# Altium schematic symbol library 电阻.SchLib: 121 symbols
Pins are listed as number, name and electrical type; pins without a type are passive.

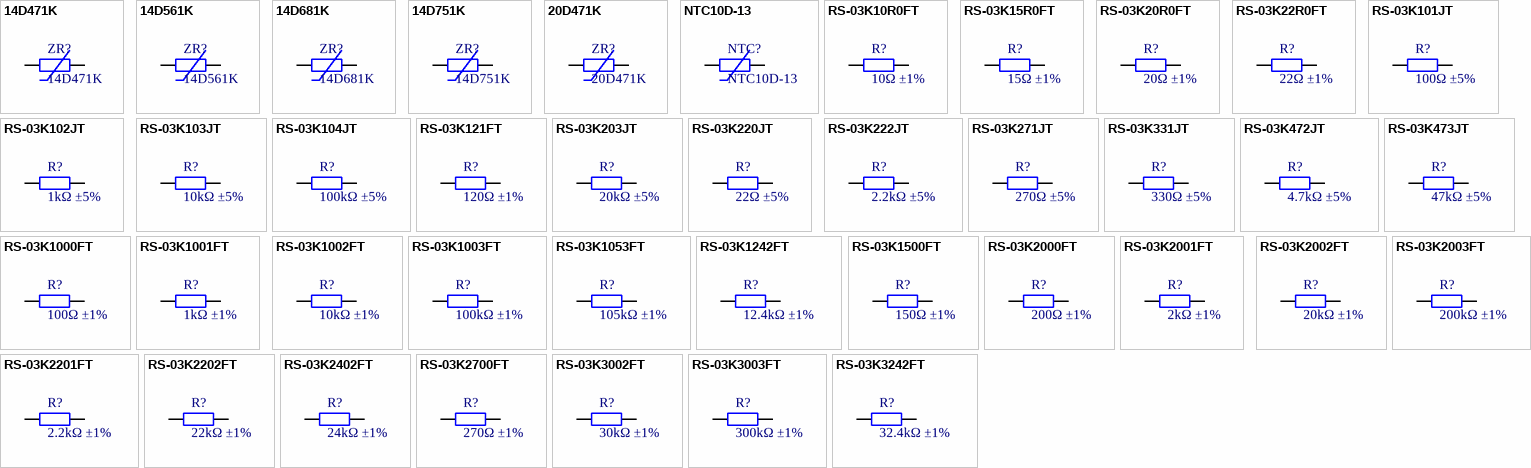
[diagram p0: symbols 14D471K to RS-03K3242FT]

## 14D471K
designator ZR?
压敏电阻 AC=300V DC=385V; 厂家: 硕凯; 金蝶料号: 010103060001; 工作温度: -55~155℃; 插件/贴片: 插件; 器件状态: 在用; 厂家型号: 14D471K; 值: 14D471K
footprint TVR-14D (淘宝ID:黄晶宝石   店铺网址:https://shop463601444.taobao.com)
pins: 1, 2

## 14D561K
designator ZR?
压敏电阻 AC=350V DC=460V; 厂家: 硕凯; 金蝶料号: 010103060008; 工作温度: -55~155℃; 插件/贴片: 插件; 器件状态: 在用; 厂家型号: 14D561K
footprint TVR-14D (淘宝ID:黄晶宝石   店铺网址:https://shop463601444.taobao.com)
pins: 1, 2

## 14D681K
designator ZR?
压敏电阻 AC=420V  DC=560V; 金蝶料号: 010103060009; 工作温度: -55~155℃; 插件/贴片: 插件; 器件状态: 在用; 厂家型号: 14D681K
footprint TVR-14D (淘宝ID:黄晶宝石   店铺网址:https://shop463601444.taobao.com)
pins: 1, 2

## 14D751K
designator ZR?
压敏电阻 AC=460V  DC=615V; 厂家型号: 14D681K; 金蝶料号: 010103060010; 工作温度: -55~155℃; 插件/贴片: 插件; 器件状态: 在用
footprint TVR-14D (淘宝ID:黄晶宝石   店铺网址:https://shop463601444.taobao.com)
pins: 1, 2

## 20D471K
designator ZR?
压敏电阻 AC=300V DC=385V; 金蝶料号: 010103060004; 工作温度: -55~155℃; 插件/贴片: 插件; 器件状态: 在用; 厂家型号: 20D471K; 值: 20D471K
footprint 20D471K
pins: 1, 2

## NTC10D-13
designator NTC?
压敏电阻 4A  MF72; 厂家: 硕凯; 金蝶料号: 010103050010; 工作温度: -40~+200℃; 插件/贴片: 插件; 值: SCN10D-13; 器件状态: 在用; 厂家型号: NTC10D-13
footprint 10D-13
pins: 1, 2

## RS-03K10R0FT
designator R?, comment 10Ω ±1%
贴片电阻 10Ω ±1% 100mW 0603; 厂家: 风华; 厂家型号: RS-03K10R0FT; 金蝶料号: 010103010134; 工作温度: -55~125℃; 插件/贴片: 贴片; 器件状态: 在用; 值: 10Ω
footprint 0603_R
pins: 1, 2

## RS-03K15R0FT
designator R?, comment 15Ω ±1%
贴片电容 15Ω ±1% 100mW 0603; 厂家: 风华; 厂家型号: RS-03K15R0FT; 金蝶料号: 010103010131; 工作温度: -55~125℃; 插件/贴片: 贴片; 器件状态: 启用; 值: 15Ω ±1% 100mW 0603
footprint 0603_R
pins: 1, 2

## RS-03K20R0FT
designator R?, comment 20Ω ±1%
贴片电阻 20Ω ±1% 100mW 0603; 厂家: 风华; 厂家型号: RS-03K20R0FT; 金蝶料号: 010103010138; 工作温度: -55~125℃; 插件/贴片: 贴片; 器件状态: 在用; 值: 20Ω
footprint 0603_R
pins: 1, 2

## RS-03K22R0FT
designator R?, comment 22Ω ±1%
贴片电阻 22Ω ±1% 100mW  0603; 厂家: 风华; 厂家型号: RS-03K22R0FT; 金蝶料号: 010103010127; 工作温度: -55~125℃; 插件/贴片: 贴片; 器件状态: 在用; 值: 22Ω
footprint 0603_R
pins: 1, 2

## RS-03K101JT
designator R?, comment 100Ω ±5%
贴片电阻 100Ω ±5% 100mW 0603; 厂家: 风华; 厂家型号: RS-03K101JT; 金蝶料号: 010103010186; 工作温度: -55~125℃; 插件/贴片: 贴片; 器件状态: 在用; 值: 100Ω
footprint 0603_R
pins: 1, 2

## RS-03K102JT
designator R?, comment 1kΩ ±5%
贴片电阻 1kΩ ±5% 100mW 0603; 厂家: 风华; 厂家型号: RS-03K102JT; 金蝶料号: 010103010158; 工作温度: -55~125℃; 插件/贴片: 贴片; 器件状态: 在用; 值: 1kΩ ±5% 100mW 0603
footprint 0603_R
pins: 1, 2

## RS-03K103JT
designator R?, comment 10kΩ ±5%
贴片电阻 10kΩ ±5% 100mW 0603; 厂家: 风华; 厂家型号: RS-03K103JT; 金蝶料号: 010103010152; 工作温度: -55~125℃; 插件/贴片: 贴片; 器件状态: 在用; 值: 10kΩ
footprint 0603_R
pins: 1, 2

## RS-03K104JT
designator R?, comment 100kΩ ±5%
贴片电阻 100kΩ ±5% 100mW 0603; 厂家: 风华; 厂家型号: RS-03K104JT; 金蝶料号: 010103010187; 工作温度: -55~125℃; 插件/贴片: 贴片; 器件状态: 在用; 值: 100kΩ
footprint 0603_R
pins: 1, 2

## RS-03K121FT
designator R?, comment 120Ω ±1%
贴片电阻 120Ω ±1% 100mW 0603; 厂家: 风华; 厂家型号: RS-03K121FT; 金蝶料号: 010103010117; 工作温度: -55~125℃; 插件/贴片: 贴片; 器件状态: 在用; 值: 120Ω ±1% 100mW 0603
footprint 0603_R
pins: 1, 2

## RS-03K203JT
designator R?, comment 20kΩ ±5%
贴片电阻 20kΩ ±5% 100mW 0603; 厂家: 风华; 厂家型号: RS-03K203JT; 金蝶料号: 010103010160; 工作温度: -55~125℃; 插件/贴片: 贴片; 器件状态: 在用; 值: 20kΩ
footprint 0603_R
pins: 1, 2

## RS-03K220JT
designator R?, comment 22Ω ±5%
贴片电阻 22Ω ±5% 100mW 0603; 厂家: 风华; 厂家型号: RS-03K220JT; 金蝶料号: 010103010189; 工作温度: -55~125℃; 插件/贴片: 贴片; 器件状态: 在用; 值: 22Ω
footprint 0603_R
pins: 1, 2

## RS-03K222JT
designator R?, comment 2.2kΩ ±5%
贴片电阻 2.2kΩ ±5% 100mW 0603; 厂家: 风华; 厂家型号: RS-03K222JT; 金蝶料号: 010103010163; 工作温度: -55~155℃; 插件/贴片: 贴片; 器件状态: 在用; 值: 2.2kΩ
footprint 0603_R
pins: 1, 2

## RS-03K271JT
designator R?, comment 270Ω ±5%
贴片电阻 270Ω ±5% 100mW 0603; 厂家: 风华; 厂家型号: RS-03K271JT; 金蝶料号: 010103010185; 工作温度: -55~125℃; 插件/贴片: 贴片; 器件状态: 在用; 值: 270Ω
footprint 0603_R
pins: 1, 2

## RS-03K331JT
designator R?, comment 330Ω ±5%
贴片电阻 330Ω ±5% 100mW 0603; 厂家: 风华; 厂家型号: RS-03K331JT; 金蝶料号: 010103010211; 工作温度: -55~125℃; 插件/贴片: 贴片; 器件状态: 在用; 值: 330Ω ±5% 100mW 0603
footprint 0603_R
pins: 1, 2

## RS-03K472JT
designator R?, comment 4.7kΩ ±5%
贴片电阻 4.7kΩ ±5% 100mW 0603; 厂家: 风华; 厂家型号: RS-03K472JT; 金蝶料号: 010103010173; 工作温度: -55~125℃; 插件/贴片: 贴片; 器件状态: 在用; 值: 4.7kΩ
footprint 0603_R
pins: 1, 2

## RS-03K473JT
designator R?, comment 47kΩ ±5%
贴片电阻 47kΩ ±5% 100mW 0603; 厂家: 风华; 厂家型号: RS-03K4702JT; 金蝶料号: 010103010209; 工作温度: -55~125℃; 插件/贴片: 贴片; 器件状态: 在用; 值: 47kΩ ±5% 100mW 0603
footprint 0603_R
pins: 1, 2

## RS-03K1000FT
designator R?, comment 100Ω ±1%
贴片电阻 100Ω ±1% 100CmW 0603; 厂家: 风华; 厂家型号: RS-03K1000FT; 金蝶料号: 010103010226; 工作温度: -55~125℃; 插件/贴片: 贴片; 器件状态: 在用; 值: 100Ω
footprint 0603_R
pins: 1, 2

## RS-03K1001FT
designator R?, comment 1kΩ ±1%
贴片电阻 1kΩ ±1% 100mW 0603; 厂家: 风华; 厂家型号: RS-03K1001FT; 金蝶料号: 010103010147; 工作温度: -55~125℃; 插件/贴片: 贴片; 器件状态: 在用; 值: 1kΩ
footprint 0603_R
pins: 1, 2

## RS-03K1002FT
designator R?, comment 10kΩ ±1%
贴片电阻 10kΩ ±1% 100mW 0603; 厂家: 风华; 厂家型号: RS-03K1002FT; 金蝶料号: 010103010146; 工作温度: -55~125℃; 插件/贴片: 贴片; 器件状态: 在用; 值: 10kΩ
footprint 0603_R
pins: 1, 2

## RS-03K1003FT
designator R?, comment 100kΩ ±1%
贴片电阻 100kΩ ±1% 100mW 0603; 厂家: 风华; 厂家型号: RS-03K1003FT; 金蝶料号: 010103010139; 工作温度: -55~125℃; 插件/贴片: 贴片; 器件状态: 在用; 值: 100kΩ
footprint 0603_R
pins: 1, 2

## RS-03K1053FT
designator R?, comment 105kΩ ±1%
贴片电阻 105kΩ ±1% 100mW 0603; 厂家: 风华; 厂家型号: RS-03K1053FT; 金蝶料号: 010103010155; 工作温度: -55~125℃; 插件/贴片: 贴片; 器件状态: 在用; 值: 105kΩ
footprint 0603_R
pins: 1, 2

## RS-03K1242FT
designator R?, comment 12.4kΩ ±1%
贴片电阻 12.4kΩ ±1% 100mW 0603; 厂家: 风华; 厂家型号: RS-03K1242FT; 金蝶料号: 010103010190; 工作温度: -55~125℃; 插件/贴片: 贴片; 器件状态: 在用; 值: 12.4kΩ
footprint 0603_R
pins: 1, 2

## RS-03K1500FT
designator R?, comment 150Ω ±1%
贴片电阻 150Ω ±1% 100mW 0603; 厂家: 风华; 厂家型号: RS-03K1500FT; 金蝶料号: 010103010223; 工作温度: -55~125℃; 插件/贴片: 贴片; 器件状态: 在用; 值: 150Ω
footprint 0603_R
pins: 1, 2

## RS-03K2000FT
designator R?, comment 200Ω ±1%
贴片电阻 200Ω ±1% 100CmW 0603; 厂家: 风华; 厂家型号: RS-03K2000FT; 金蝶料号: 010103010238; 工作温度: -55~125℃; 插件/贴片: 贴片; 器件状态: 在用; 值: 200Ω
footprint 0603_R
pins: 1, 2

## RS-03K2001FT
designator R?, comment 2kΩ ±1%
贴片电阻 2kΩ ±1% 100mW 0603; 厂家: 风华; 厂家型号: RS-03K2001FT; 金蝶料号: 010103010175; 工作温度: -55~125℃; 插件/贴片: 贴片; 器件状态: 在用; 值: 2kΩ
footprint 0603_R
pins: 1, 2

## RS-03K2002FT
designator R?, comment 20kΩ ±1%
贴片电阻 20kΩ ±1% 100mW 0603; 厂家: 风华; 厂家型号: RS-03K2002FT; 金蝶料号: 010103010180; 工作温度: -55~125℃; 插件/贴片: 贴片; 器件状态: 在用; 值: 20kΩ
footprint 0603_R
pins: 1, 2

## RS-03K2003FT
designator R?, comment 200kΩ ±1%
贴片电阻 200kΩ ±1% 100mW 0603; 厂家: 风华; 厂家型号: RS-03K2003FT; 金蝶料号: 010103010182; 工作温度: -55~125℃; 插件/贴片: 贴片; 器件状态: 在用; 值: 200kΩ
footprint 0603_R
pins: 1, 2

## RS-03K2201FT
designator R?, comment 2.2kΩ ±1%
贴片电阻 2.2kΩ ±1% 100mW 0603; 厂家: 风华; 厂家型号: RS-03K2201FT; 金蝶料号: 010103010133; 工作温度: -55~125℃; 插件/贴片: 贴片; 器件状态: 在用; 值: 2.2kΩ
footprint 0603_R
pins: 1, 2

## RS-03K2202FT
designator R?, comment 22kΩ ±1%
贴片电阻 22kΩ ±1% 100mW 0603; 厂家: 风华; 厂家型号: RS-03K2202FT; 金蝶料号: 010103010196; 工作温度: -55~125℃; 插件/贴片: 贴片; 器件状态: 在用; 值: 22kΩ
footprint 0603_R
pins: 1, 2

## RS-03K2402FT
designator R?, comment 24kΩ ±1%
贴片电阻 24kΩ ±1% 100mW 0603; 厂家: 风华; 厂家型号: RS-03K2402FT; 金蝶料号: 010103010203; 工作温度: -55~125℃; 插件/贴片: 贴片; 器件状态: 在用; 值: 24kΩ
footprint 0603_R
pins: 1, 2

## RS-03K2700FT
designator R?, comment 270Ω ±1%
贴片电阻 270Ω ±1% 100mW 0603; 厂家: 风华; 厂家型号: RS-03K2700FT; 金蝶料号: 010103010199; 工作温度: -55~125℃; 插件/贴片: 贴片; 器件状态: 在用; 值: 270Ω
footprint 0603_R
pins: 1, 2

## RS-03K3002FT
designator R?, comment 30kΩ ±1%
贴片电阻 30kΩ ±1% 100mW 0603; 厂家: 风华; 厂家型号: RS-03K3002FT; 金蝶料号: 010103010124; 工作温度: -55~125℃; 插件/贴片: 贴片; 器件状态: 在用; 值: *
footprint 0603_R
pins: 1, 2

## RS-03K3003FT
designator R?, comment 300kΩ ±1%
贴片电阻 300kΩ ±1% 100mW 0603; 厂家: 风华; 厂家型号: RS-03K3003FT; 金蝶料号: 010103010126; 工作温度: -55~125℃; 插件/贴片: 贴片; 器件状态: 在用; 值: 300kΩ
footprint 0603_R
pins: 1, 2

## RS-03K3242FT
designator R?, comment 32.4kΩ ±1%
贴片电阻 32.4kΩ ±1% 100mW 0603; 厂家: 风华; 厂家型号: RS-03K3242FT; 金蝶料号: 010103010227; 工作温度: -55~125℃; 插件/贴片: 贴片; 器件状态: 在用; 值: 32.4kΩ ±1% 100mW 0603
footprint 0603_R
pins: 1, 2

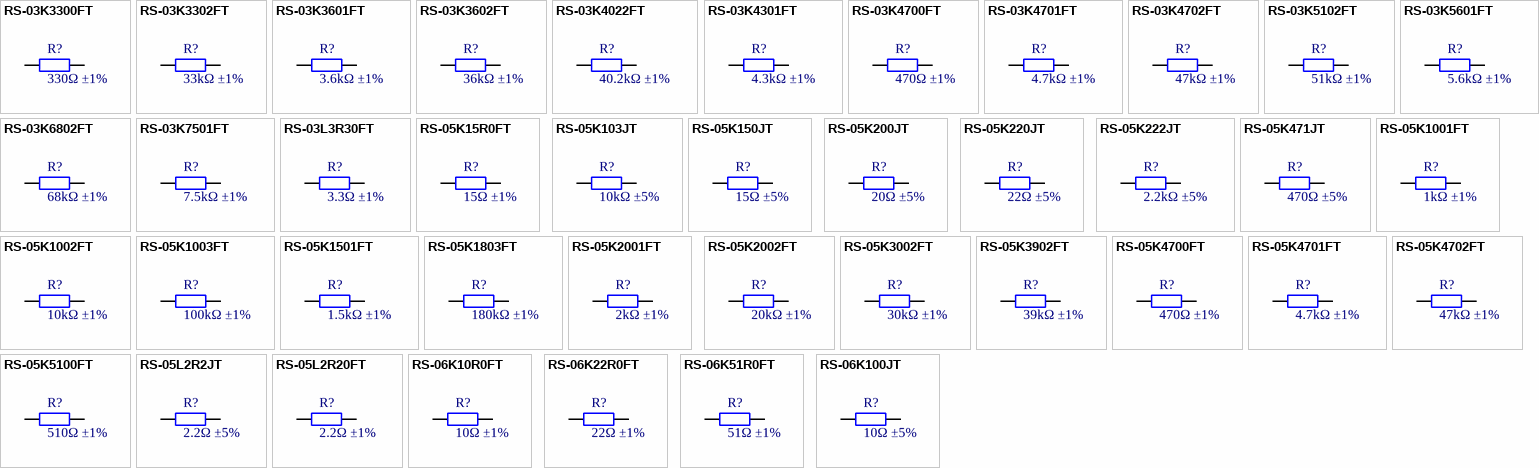
[diagram p1: symbols RS-03K3300FT to RS-06K100JT]

## RS-03K3300FT
designator R?, comment 330Ω ±1%
贴片电阻 330Ω ±1% 100mW 0603; 厂家: 风华; 厂家型号: RS-03K3300FT; 工作温度: -55~125℃; 插件/贴片: 贴片; 器件状态: 在用; 值: 330Ω
footprint 0603_R
pins: 1, 2

## RS-03K3302FT
designator R?, comment 33kΩ ±1%
贴片电阻 33kΩ ±1% 100mW 0603; 厂家: 风华; 厂家型号: RS-03K3302FT; 金蝶料号: 010103010188; 工作温度: -55~125℃; 插件/贴片: 贴片; 器件状态: 在用; 值: 33kΩ
footprint 0603_R
pins: 1, 2

## RS-03K3601FT
designator R?, comment 3.6kΩ ±1%
贴片电阻 3.6kΩ ±1% 100mW 0603; 厂家: 风华; 厂家型号: RS-03K3601FT; 金蝶料号: 010103010132; 工作温度: -55~125℃; 插件/贴片: 贴片; 器件状态: 在用; 值: 3.6kΩ ±1% 100mW 0603
footprint 0603_R
pins: 1, 2

## RS-03K3602FT
designator R?, comment 36kΩ ±1%
贴片电阻 36kΩ ±1% 100mW 0603; 厂家: 风华; 厂家型号: RS-03K3602FT; 金蝶料号: 010103010177; 工作温度: -55~125℃; 插件/贴片: 贴片; 器件状态: 在用; 值: 36kΩ ±1%
footprint 0603_R
pins: 1, 2

## RS-03K4022FT
designator R?, comment 40.2kΩ ±1%
贴片电阻 40.2kΩ ±1% 100mW 0603; 厂家: 风华; 厂家型号: RS-03K4022FT; 金蝶料号: 010103010143; 工作温度: -55~125℃; 插件/贴片: 贴片; 器件状态: 在用; 值: 40.2kΩ
footprint 0603_R
pins: 1, 2

## RS-03K4301FT
designator R?, comment 4.3kΩ ±1%
贴片电阻 4.3kΩ ±1% 100mW 0603; 厂家: 风华; 厂家型号: RS-03K4301FT; 金蝶料号: 010103010183; 工作温度: -55~125℃; 插件/贴片: 贴片; 器件状态: 在用; 值: 4.3kΩ
footprint 0603_R
pins: 1, 2

## RS-03K4700FT
designator R?, comment 470Ω ±1%
贴片电阻 470Ω ±1% 100mW 0603; 厂家: 风华; 厂家型号: RS-03K4700FT; 金蝶料号: 010103010140; 工作温度: -55~125℃; 插件/贴片: 贴片; 器件状态: 在用; 值: 470Ω
footprint 0603_R
pins: 1, 2

## RS-03K4701FT
designator R?, comment 4.7kΩ ±1%
贴片电阻 4.7kΩ ±1% 100mW 0603; 厂家: 风华; 厂家型号: RS-03K4701FT; 金蝶料号: 010103010141; 工作温度: -55~125℃; 插件/贴片: 贴片; 器件状态: 在用; 值: 4.7kΩ
footprint 0603_R
pins: 1, 2

## RS-03K4702FT
designator R?, comment 47kΩ ±1%
贴片电阻 47kΩ ±1% 100mW 0603; 厂家: 风华; 厂家型号: RS-03K4702FT; 金蝶料号: 010103010181; 工作温度: -55~125℃; 插件/贴片: 贴片; 器件状态: 在用; 值: 47kΩ
footprint 0603_R
pins: 1, 2

## RS-03K5102FT
designator R?, comment 51kΩ ±1%
贴片电阻 51kΩ ±1% 100mW 0603; 厂家: 风华; 厂家型号: RS-03K5102FT; 金蝶料号: 010103010174; 工作温度: -55~155℃; 插件/贴片: 贴片; 器件状态: 在用; 值: 51kΩ
footprint 0603_R
pins: 1, 2

## RS-03K5601FT
designator R?, comment 5.6kΩ ±1%
贴片电阻 5.6kΩ ±1% 100mW 0603; 厂家: 风华; 厂家型号: RS-03K5601FT; 金蝶料号: 010103010228; 工作温度: -55~125℃; 插件/贴片: 贴片; 器件状态: 在用; 值: 5.6kΩ
footprint 0603_R
pins: 1, 2

## RS-03K6802FT
designator R?, comment 68kΩ ±1%
贴片电阻 68kΩ ±1% 100mW 0603; 厂家: 风华; 厂家型号: RS-03K6802FT; 金蝶料号: 010103010178; 工作温度: -55~125℃; 插件/贴片: 贴片; 器件状态: 在用; 值: 68kΩ
footprint 0603_R
pins: 1, 2

## RS-03K7501FT
designator R?, comment 7.5kΩ ±1%
贴片电阻 7.5kΩ ±1% 100mW 0603; 厂家: 风华; 厂家型号: RS-03K7501FT; 金蝶料号: 010103010135; 工作温度: -55~125℃; 插件/贴片: 贴片; 器件状态: 在用; 值: 7.5kΩ
footprint 0603_R
pins: 1, 2

## RS-03L3R30FT
designator R?, comment 3.3Ω ±1%
贴片电阻 3.3Ω ±1% 100mW 0603; 厂家: 风华; 厂家型号: RS-03L3R30FT; 金蝶料号: 010103010125; 工作温度: -55~125℃; 插件/贴片: 贴片; 器件状态: 在用; 值: 3.3Ω
footprint 0603_R
pins: 1, 2

## RS-05K15R0FT
designator R?, comment 15Ω ±1%
贴片电阻 15Ω ±1% 125mW 0805; 厂家: 风华; 厂家型号: RS-05K15R0FT; 金蝶料号: 010103010218; 工作温度: -55~155℃; 插件/贴片: 贴片; 器件状态: 在用; 值: 15Ω ±1% 125mW 0805
footprint 0805_R
pins: 1, 2

## RS-05K103JT
designator R?, comment 10kΩ ±5%
贴片电阻 10kΩ ±5% 125mW 0805; 厂家: 风华; 厂家型号: RS-05K103JT; 金蝶料号: 010103010154; 工作温度: -55~155℃; 插件/贴片: 贴片; 器件状态: 在用; 值: 10kΩ
footprint 0805_R
pins: 1, 2

## RS-05K150JT
designator R?, comment 15Ω ±5%
贴片电阻 15Ω ±5% 125mW 0805; 厂家: 风华; 厂家型号: RS-05K150JT; 金蝶料号: 010103010219; 工作温度: -55~155℃; 插件/贴片: 贴片; 器件状态: 在用; 值: 15Ω ±5% 125mW 0805
footprint 0805_R
pins: 1, 2

## RS-05K200JT
designator R?, comment 20Ω ±5%
贴片电阻 20Ω ±5% 125mW 0805; 厂家: 风华; 厂家型号: RS-05K200JT; 金蝶料号: 010103010153; 工作温度: -55~155℃; 插件/贴片: 贴片; 器件状态: 在用; 值: 20Ω
footprint 0805_R
pins: 1, 2

## RS-05K220JT
designator R?, comment 22Ω ±5%
贴片电阻 22Ω ±5% 125mW 0805; 厂家: 风华; 厂家型号: RS-05K220JT; 金蝶料号: 010103010220; 工作温度: -55~125℃; 插件/贴片: 贴片; 器件状态: 在用; 值: 22Ω ±5% 125mW 0805
footprint 0805_R
pins: 1, 2

## RS-05K222JT
designator R?, comment 2.2kΩ ±5%
贴片电阻 2.2kΩ ±5% 125mW 0805; 厂家: 风华; 厂家型号: RS-05K222JT; 金蝶料号: 010103010161; 工作温度: -55~155℃; 插件/贴片: 贴片; 器件状态: 在用; 值: 2.2kΩ
footprint 0805_R
pins: 1, 2

## RS-05K471JT
designator R?, comment 470Ω ±5%
贴片电阻 470Ω ±5% 125mW 0805; 厂家: 风华; 厂家型号: RS-05K471JT; 金蝶料号: 010103010193; 工作温度: -55~125℃; 插件/贴片: 贴片; 器件状态: 在用; 值: *
footprint 0805_R
pins: 1, 2

## RS-05K1001FT
designator R?, comment 1kΩ ±1%
贴片电阻 1kΩ ±1% 125mW 0805; 厂家: 风华; 厂家型号: RS-05K1001FT; 金蝶料号: 010103010120; 工作温度: -55~155℃; 插件/贴片: 贴片; 器件状态: 在用; 值: 1kΩ
footprint 0805_R
pins: 1, 2

## RS-05K1002FT
designator R?, comment 10kΩ ±1%
贴片电阻 10kΩ ±1% 125mW 0805; 厂家: 风华; 厂家型号: RS-05K1002FT; 金蝶料号: 010103010156; 工作温度: -55~125℃; 插件/贴片: 贴片; 器件状态: 在用; 值: 10kΩ
footprint 0805_R
pins: 1, 2

## RS-05K1003FT
designator R?, comment 100kΩ ±1%
贴片电阻 100kΩ ±1% 125mW 0805; 厂家: 风华; 厂家型号: RS-05K1003FT; 金蝶料号: 010103010162; 工作温度: -55~155℃; 插件/贴片: 贴片; 器件状态: 在用; 值: 100kΩ
footprint 0805_R
pins: 1, 2

## RS-05K1501FT
designator R?, comment 1.5kΩ ±1%
贴片电阻 1.5kΩ ±1% 125mW 0805; 厂家: 风华; 厂家型号: RS-05K1501FT; 金蝶料号: 010103010171; 工作温度: -55~155℃; 插件/贴片: 贴片; 器件状态: 在用; 值: 1.5kΩ
footprint 0805_R
pins: 1, 2

## RS-05K1803FT
designator R?, comment 180kΩ ±1%
贴片电阻 180kΩ ±1% 125mW 0805; 厂家: 风华; 厂家型号: RS-05K1803FT; 金蝶料号: 010103010157; 工作温度: -55~125℃; 插件/贴片: 贴片; 器件状态: 在用; 值: 180kΩ
footprint 0805_R
pins: 1, 2

## RS-05K2001FT
designator R?, comment 2kΩ ±1%
贴片电阻 2kΩ ±1% 125mW 0805; 厂家: 风华; 厂家型号: RS-05K2001FT; 金蝶料号: 010103010232; 工作温度: -55~125℃; 插件/贴片: 贴片; 器件状态: 在用
footprint 0805_R
pins: 1, 2

## RS-05K2002FT
designator R?, comment 20kΩ ±1%
贴片电阻 20kΩ ±1% 125mW 0805; 厂家: 风华; 厂家型号: RS-05K2002FT; 金蝶料号: 010103010208; 工作温度: -55~155℃; 插件/贴片: 贴片; 器件状态: 在用; 值: 20kΩ ±1% 125mW 0805
footprint 0805_R
pins: 1, 2

## RS-05K3002FT
designator R?, comment 30kΩ ±1%
贴片电阻 30kΩ ±1% 125mW 0805; 厂家: 风华; 厂家型号: RS-05K3002FT; 金蝶料号: 010103010123; 工作温度: -55~155℃; 插件/贴片: 贴片; 器件状态: 在用; 值: *
footprint 0805_R
pins: 1, 2

## RS-05K3902FT
designator R?, comment 39kΩ ±1%
贴片电阻 39kΩ ±1% 125mW 0805; 厂家: 风华; 厂家型号: RS-05K3902FT; 金蝶料号: 010103010198; 工作温度: -55~155℃; 插件/贴片: 贴片; 器件状态: 在用; 值: 39kΩ
footprint 0805_R
pins: 1, 2

## RS-05K4700FT
designator R?, comment 470Ω ±1%
贴片电阻 470Ω ±1% 125mW 0805; 厂家: 风华; 厂家型号: RS-05K4700FT; 金蝶料号: 010103010201; 工作温度: -55~155℃; 插件/贴片: 贴片; 器件状态: 在用; 值: *
footprint 0805_R
pins: 1, 2

## RS-05K4701FT
designator R?, comment 4.7kΩ ±1%
贴片电阻 4.7kΩ ±1% 125mW 0805; 厂家: 风华; 厂家型号: RS-05K4701FT; 金蝶料号: 010103010231; 工作温度: -55~155℃; 插件/贴片: 贴片; 器件状态: 在用
footprint 0805_R
pins: 1, 2

## RS-05K4702FT
designator R?, comment 47kΩ ±1%
贴片电阻 47kΩ ±1% 125mW 0805; 厂家: 风华; 厂家型号: RS-05K4702FT; 金蝶料号: 010103010167; 工作温度: -55~155℃; 插件/贴片: 贴片; 器件状态: 在用; 值: 47kΩ
footprint 0805_R
pins: 1, 2

## RS-05K5100FT
designator R?, comment 510Ω ±1%
贴片电阻 510Ω ±1% 125mW 0805; 厂家: 风华; 厂家型号: RS-05K5100FT; 金蝶料号: 010103010049; 工作温度: -55~155℃; 插件/贴片: 贴片; 器件状态: 在用; 值: 510Ω
footprint 0603_R
pins: 1, 2

## RS-05L2R2JT
designator R?, comment 2.2Ω ±5%
贴片电阻 2.2Ω ±5% 125mW 0805; 厂家: 风华; 厂家型号: RS-05L2R2JT; 金蝶料号: 010103010192; 工作温度: -55~125℃; 插件/贴片: 贴片; 器件状态: 在用; 值: 2.2Ω
footprint 0805_R
pins: 1, 2

## RS-05L2R20FT
designator R?, comment 2.2Ω ±1%
贴片电阻 2.2Ω ±1% 125mW 0805; 厂家: 风华; 厂家型号: RS-05L2R20FT; 金蝶料号: 010103010205; 工作温度: -55~125℃; 插件/贴片: 贴片; 器件状态: 在用; 值: 2.2Ω
footprint 0805_R
pins: 1, 2

## RS-06K10R0FT
designator R?, comment 10Ω ±1%
贴片电阻 10Ω ±1% 250mW 1206; 厂家: 风华; 厂家型号: RS-06K10R0FT; 金蝶料号: 010103010122; 工作温度: -55~155℃; 插件/贴片: 贴片; 器件状态: 在用; 值: 10Ω
footprint 1206_R
pins: 1, 2

## RS-06K22R0FT
designator R?, comment 22Ω ±1%
贴片电阻 22Ω ±1% 250mW 1206; 厂家: 风华; 厂家型号: RS-06K22R0FT; 金蝶料号: 010103010210; 工作温度: -55~155℃; 插件/贴片: 贴片; 器件状态: 启用; 值: 22Ω ±1% 250mW 1206
footprint 1206_R
pins: 1, 2

## RS-06K51R0FT
designator R?, comment 51Ω ±1%
贴片电阻 51Ω ±1% 250mW 1206; 厂家: 风华; 厂家型号: RS-06K51R0FT; 金蝶料号: 010103010200; 工作温度: -55~155℃; 插件/贴片: 贴片; 器件状态: 在用; 值: 51Ω
footprint 1206_R
pins: 1, 2

## RS-06K100JT
designator R?, comment 10Ω ±5%
贴片电阻 10Ω ±5% 250mW 1206; 厂家: 风华; 厂家型号: RS-06K100JT; 金蝶料号: 010103010166; 工作温度: -55~155℃; 插件/贴片: 贴片; 器件状态: 在用; 值: 10Ω
footprint 1206_R
pins: 1, 2

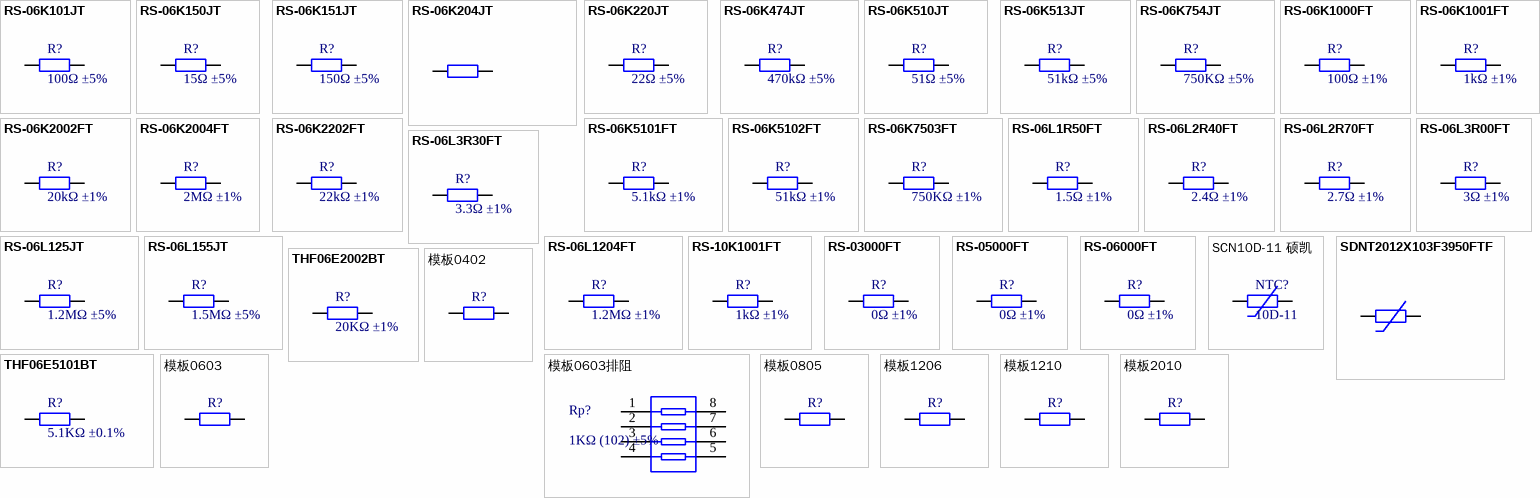
[diagram p2: symbols RS-06K101JT to 模板2010]

## RS-06K101JT
designator R?, comment 100Ω ±5%
贴片电阻 100Ω ±5% 250mW 1206; 厂家: 风华; 厂家型号: RS-06K101JT; 金蝶料号: 010103010137; 工作温度: -55~155℃; 插件/贴片: 贴片; 器件状态: 在用; 值: 100Ω
footprint 1206_R
pins: 1, 2

## RS-06K150JT
designator R?, comment 15Ω ±5%
贴片电阻 15Ω ±5% 250mW 1206; 厂家: 风华; 厂家型号: RS-06K150JT; 金蝶料号: 010103010165; 工作温度: -55~155℃; 插件/贴片: 贴片; 器件状态: 在用; 值: 15Ω
footprint 1206_R
pins: 1, 2

## RS-06K151JT
designator R?, comment 150Ω ±5%
贴片电阻 150Ω ±5% 250mW 1206; 厂家: 风华; 厂家型号: RS-06K151JT; 金蝶料号: 010103010164; 工作温度: -55~155℃; 插件/贴片: 贴片; 器件状态: 在用; 值: 150Ω
footprint 1206_R
pins: 1, 2

## RS-06K204JT
designator R?, comment 200kΩ ±5%
贴片电阻 200kΩ ±5% 250mW 1206; 厂家: 风华; 厂家型号: RS-06K204JT; 金蝶料号: 010103010222; 工作温度: -55~155℃; 插件/贴片: 贴片; 器件状态: 在用; 值: 200kΩ ±5% 250mW 1206
footprint 1206_R (Footprint not found)
pins: 1, 2

## RS-06K220JT
designator R?, comment 22Ω ±5%
贴片电阻 22Ω ±5% 250mW 1206; 厂家: 风华; 厂家型号: RS-06K220JT; 金蝶料号: 010103010214; 工作温度: -55~125℃; 插件/贴片: 贴片; 器件状态: 在用; 值: 22Ω ±5% 250mW 1206
footprint 1206_R
pins: 1, 2

## RS-06K474JT
designator R?, comment 470kΩ ±5%
贴片电阻 470kΩ ±5% 250mW 1206; 厂家: 风华; 厂家型号: RS-06K474JT; 金蝶料号: 010103010159; 工作温度: -55~155℃; 插件/贴片: 贴片; 器件状态: 在用; 值: 470kΩ
footprint 1206_R
pins: 1, 2

## RS-06K510JT
designator R?, comment 51Ω ±5%
贴片电阻 51Ω ±5% 250mW 1206; 厂家: 风华; 厂家型号: RS-06K510JT; 金蝶料号: 010103010101; 工作温度: -55~155℃; 插件/贴片: 贴片; 器件状态: 在用; 值: 51Ω
footprint 1206_R
pins: 1, 2

## RS-06K513JT
designator R?, comment 51kΩ ±5%
贴片电阻 51kΩ ±5% 250mW 1206; 厂家: 风华; 厂家型号: RS-06K513JT; 金蝶料号: 010103010121; 工作温度: -55~125℃; 插件/贴片: 贴片; 器件状态: 在用; 值: *
footprint 1206_R
pins: 1, 2

## RS-06K754JT
designator R?, comment 750KΩ ±5%
贴片电阻 750KΩ ±5% 250mW 1206; 厂家: 风华; 厂家型号: RS-06K754JT; 金蝶料号: 010103010216; 工作温度: -55~155℃; 插件/贴片: 贴片; 器件状态: 启用; 值: 750KΩ ±5% 250mW 1206
footprint 1206_R
pins: 1, 2

## RS-06K1000FT
designator R?, comment 100Ω ±1%
贴片电阻 100Ω ±1% 250mW 1206; 厂家: 风华; 厂家型号: RS-06K1000FT; 金蝶料号: 010103010128; 工作温度: -55~155℃; 插件/贴片: 贴片; 器件状态: 在用; 值: 100Ω
footprint 1206_R
pins: 1, 2

## RS-06K1001FT
designator R?, comment 1kΩ ±1%
贴片电阻 1kΩ ±1% 250mW 1206; 厂家: 风华; 厂家型号: RS-06K1001FT; 金蝶料号: 010103010204; 工作温度: -55~155℃; 插件/贴片: 贴片; 器件状态: 在用; 值: 1kΩ
footprint 1206_R
pins: 1, 2

## RS-06K2002FT
designator R?, comment 20kΩ ±1%
贴片电阻 20kΩ ±1% 250mW 1206; 厂家: 风华; 厂家型号: RS-06K2002FT; 金蝶料号: 010103010149; 工作温度: -55~125℃; 插件/贴片: 贴片; 器件状态: 在用; 值: 20kΩ
footprint 1206_R
pins: 1, 2

## RS-06K2004FT
designator R?, comment 2MΩ ±1%
贴片电阻 2MΩ ±1% 250mW 1206; 厂家: 风华; 厂家型号: RS-06K2004FT; 金蝶料号: 010103010230; 工作温度: -55~125℃; 插件/贴片: 贴片; 器件状态: 在用
footprint 1206_R
pins: 1, 2

## RS-06K2202FT
designator R?, comment 22kΩ ±1%
贴片电阻 22kΩ ±1% 250mW 1206; 厂家: 风华; 厂家型号: RS-06K2202FT; 金蝶料号: 010103010206; 工作温度: -55~155℃; 插件/贴片: 贴片; 器件状态: 在用; 值: 22kΩ
footprint 1206_R
pins: 1, 2

## RS-06K5101FT
designator R?, comment 5.1kΩ ±1%
贴片电阻 5.1kΩ ±1% 250mW 1206; 厂家: 风华; 厂家型号: RS-06K5101FT; 金蝶料号: 010103010241; 工作温度: -55~155℃; 插件/贴片: 贴片; 器件状态: 在用; 值: 5.1kΩ
footprint 1206_R
pins: 1, 2

## RS-06K5102FT
designator R?, comment 51kΩ ±1%
贴片电阻 51kΩ ±1% 250mW 1206; 厂家: 风华; 厂家型号: RS-06K5101FT; 金蝶料号: 010103010229; 工作温度: -55~155℃; 插件/贴片: 贴片; 器件状态: 在用
footprint 1206_R
pins: 1, 2

## RS-06K7503FT
designator R?, comment 750KΩ ±1%
贴片电阻 750KΩ ±1% 250mW 1206; 厂家: 风华; 厂家型号: RS-06K754JT; 金蝶料号: 010103010217; 工作温度: -55~155℃; 插件/贴片: 贴片; 器件状态: 启用; 值: 750KΩ ±1% 250mW 1206
footprint 1206_R
pins: 1, 2

## RS-06L1R50FT
designator R?, comment 1.5Ω ±1%
贴片电阻 1.5Ω ±1% 250mW 1206; 厂家: 风华; 厂家型号: RS-06L1R50FT; 金蝶料号: 010103010197; 工作温度: -55~155℃; 插件/贴片: 贴片; 器件状态: 在用; 值: 1.5Ω
footprint 1206_R
pins: 1, 2

## RS-06L2R40FT
designator R?, comment 2.4Ω ±1%
贴片电阻 2.4Ω ±1% 250mW 1206; 厂家: 风华; 厂家型号: RS-06L2R40FT; 金蝶料号: 010103010168; 工作温度: -55~155℃; 插件/贴片: 贴片; 器件状态: 在用; 值: 2.4Ω
footprint 1206_R
pins: 1, 2

## RS-06L2R70FT
designator R?, comment 2.7Ω ±1%
贴片电阻 2.7Ω ±1% 250mW 1206; 厂家: 风华; 厂家型号: RS-06L2R70FT; 金蝶料号: 010103010170; 工作温度: -55~155℃; 插件/贴片: 贴片; 器件状态: 在用; 值: 2.7Ω
footprint 1206_R
pins: 1, 2

## RS-06L3R00FT
designator R?, comment 3Ω ±1%
贴片电阻 3Ω ±1% 250mW 1206; 厂家: 风华; 厂家型号: RS-06L3R00FT; 金蝶料号: 010103010236; 工作温度: -55~155℃; 插件/贴片: 贴片; 器件状态: 在用
footprint 1206_R
pins: 1, 2

## RS-06L3R30FT
designator R?, comment 3.3Ω ±1%
贴片电阻 3.3Ω ±1% 250mW 1206; 厂家: 风华; 厂家型号: RS-06L3R30FT; 金蝶料号: 010103010235; 工作温度: -55~155℃; 插件/贴片: 贴片; 器件状态: 在用
footprint 1206_R
pins: 1, 2

## RS-06L125JT
designator R?, comment 1.2MΩ ±5%
贴片电阻 1.2MΩ ±5% 250mW 1206; 厂家: 风华; 厂家型号: RS-06L125JT; 金蝶料号: 010103010212; 工作温度: -55~125℃; 插件/贴片: 贴片; 器件状态: 在用; 值: 1.2MΩ ±5% 250mW 1206
footprint 1206_R
pins: 1, 2

## RS-06L155JT
designator R?, comment 1.5MΩ ±5%
贴片电阻 1.5MΩ ±5% 250mW 1206; 厂家: 风华; 厂家型号: RS-06L155JT; 金蝶料号: 010103010172; 工作温度: -55~155℃; 插件/贴片: 贴片; 器件状态: 在用; 值: 1.5MΩ
footprint 1206_R
pins: 1, 2

## RS-06L1204FT
designator R?, comment 1.2MΩ ±1%
贴片电阻 1.2MΩ ±1% 250mW 1206; 厂家: 风华; 厂家型号: RS-06L1204FT; 金蝶料号: 010103010213; 工作温度: -55~125℃; 插件/贴片: 贴片; 器件状态: 在用; 值: 1.2MΩ ±1% 250mW 1206
footprint 1206_R
pins: 1, 2

## RS-10K1001FT
designator R?, comment 1kΩ ±1%
贴片电阻 1kΩ ±1% 750mW 2010; 厂家: 风华; 厂家型号: RS-10K1001FT; 金蝶料号: 010103010195; 工作温度: -55~155℃; 插件/贴片: 贴片; 器件状态: 在用; 值: 1kΩ
footprint 2010_R
pins: 1, 2

## RS-03000FT
designator R?, comment 0Ω ±1%
贴片电阻 0Ω ±1% 100mW 0603; 厂家: 风华; 厂家型号: RS-03000FT; 金蝶料号: 010103010144; 工作温度: -55~125℃; 插件/贴片: 贴片; 器件状态: 在用; 值: 0Ω
footprint 0603_R
pins: 1, 2

## RS-05000FT
designator R?, comment 0Ω ±1%
贴片电阻 0Ω ±1% 125mW 0805; 厂家: 风华; 厂家型号: RS-05000FT; 金蝶料号: 010103010058; 工作温度: -55~155℃; 插件/贴片: 贴片; 器件状态: 在用; 值: 0Ω
footprint 0805_R
pins: 1, 2

## RS-06000FT
designator R?, comment 0Ω ±1%
贴片电阻 0Ω ±1% 250mW 1206; 厂家: 风华; 厂家型号: RS-06000FT; 金蝶料号: 010103010221; 工作温度: -55~155℃; 插件/贴片: 贴片; 器件状态: 在用; 值: 0Ω ±1% 250mW 1206
footprint 1206_R
pins: 1, 2

## SCN10D-11 硕凯
designator NTC?, comment 10D-11
压敏电阻; 厂家: 硕凯; 厂家型号: SCN10D-11; 金蝶料号: 010103050001; 工作温度: -40~+200℃; 插件/贴片: 插件; 器件状态: 在用; 值: SCN10D-11
footprint 10D-11
pins: 1, 2

## SDNT2012X103F3950FTF
designator R?, comment 10K 1%  3950K 0805
热敏电阻 10K 1%  3950K 0805; 厂家: 顺络; 厂家型号: SDNT2012X103F3950FTF; 金蝶料号: 010103050006; 插件/贴片: 贴片; 器件状态: 启用; 工作温度: *; 值: 10K 1%  3950K 0805; ComponentLink1Description: New link; ComponentLink1URL: *
footprint 0805_R
pins: 1, 2

## THF06E2002BT
designator R?, comment 20KΩ ±1%
贴片电阻 20kΩ ±1% 250mW 1206; 厂家: 风华; 厂家型号: THF06E2002BT; 金蝶料号: 010103010233; 工作温度: -55~155℃; 插件/贴片: 贴片; 器件状态: 在用
footprint 1206_R
pins: 1, 2

## THF06E5101BT
designator R?, comment 5.1KΩ ±0.1%
贴片电阻 5.1kΩ ±0.1% 250mW 1206; 厂家: 风华; 厂家型号: THF06E5101BT; 金蝶料号: 010103010234; 工作温度: -55~155℃; 插件/贴片: 贴片; 器件状态: 在用
footprint 1206_R
pins: 1, 2

## 模板0402
designator R?
贴片电阻; 厂家: 风华; 工作温度: -55~125℃; 插件/贴片: 贴片; 器件状态: 在用; 厂家型号: *; 金蝶料号: *; 值: *
footprint 0402_R
pins: 1, 2

## 模板0603
designator R?
贴片电阻; 厂家: 风华; 工作温度: -55~125℃; 插件/贴片: 贴片; 器件状态: 在用; 厂家型号: *; 金蝶料号: *; 值: *
footprint 0603_R
pins: 1, 2

## 模板0603排阻
designator Rp?, comment 1KΩ (102) ±5%
贴片排阻; ComponentLink1Description: 供应商链接; ComponentLink1URL: http://www.szlcsc.com/product/details_20907.html; Package: 0603*4; Supplier: LC; SuppliersPartNumber: C20197
footprint 0603_Rx4
pins: 1, 2, 3, 4, 5, 6, 7, 8

## 模板0805
designator R?
贴片电阻; 厂家: 风华; 工作温度: -55~155℃; 插件/贴片: 贴片; 器件状态: 在用; 厂家型号: *; 金蝶料号: *; 值: *
footprint 0805_R
pins: 1, 2

## 模板1206
designator R?
贴片电阻; 厂家: 风华; 工作温度: -55~155℃; 插件/贴片: 贴片; 器件状态: 在用; 厂家型号: *; 金蝶料号: *; 值: *
footprint 1206_R
pins: 1, 2

## 模板1210
designator R?
贴片电阻; 厂家: 风华; 工作温度: -55~155℃; 插件/贴片: 贴片; 器件状态: 在用; 厂家型号: *; 金蝶料号: *; 值: *
footprint 1210_R
pins: 1, 2

## 模板2010
designator R?
贴片电阻; 厂家: 风华; 工作温度: -55~155℃; 插件/贴片: 贴片; 器件状态: 在用; 厂家型号: *; 金蝶料号: *; 值: *
footprint 2010_R
pins: 1, 2

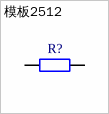
[diagram p3: symbol 模板2512]

## 模板2512
designator R?
贴片电阻; 厂家: 风华; 工作温度: -55~155℃; 插件/贴片: 贴片; 器件状态: 在用; 厂家型号: *; 金蝶料号: *; 值: *
footprint 2512_R
pins: 1, 2